# EAGLE library part CONN,12POS (library 9_Dynalec)
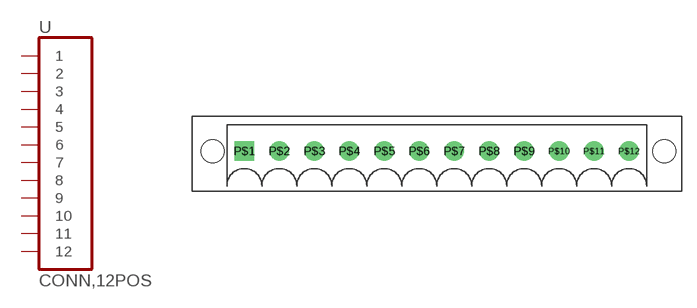
[diagram p2: symbol with the pads of WEIDMULLER_SL3.50_180F; footprint WEIDMULLER_SL3.50_180F]

Designator prefix -

## CONN,12POS  [WEIDMULLER_SL3.50_180F]
P$1  1  pas
P$2  2  pas
P$3  3  pas
P$4  4  pas
P$5  5  pas
P$6  6  pas
P$7  7  pas
P$8  8  pas
P$9  9  pas
P$10  10  pas
P$11  11  pas
P$12  12  pas

## Footprint WEIDMULLER_SL3.50_180F (pad centres in mm)
drill 1.3 square: P$1 0,0
drill 1.3: P$2 3.5,0; P$3 7,0; P$4 10.5,0; P$5 14,0; P$6 17.5,0; P$7 21,0; P$8 24.5,0; P$9 28,0; P$10 31.5,0; P$11 35,0; P$12 38.5,0
hole 2.3 at -3.2,0
hole 2.3 at 42,0